# Altium schematic symbol library Joystick.SchLib: 12 symbols
Pins are listed as number, name and electrical type; pins without a type are passive.

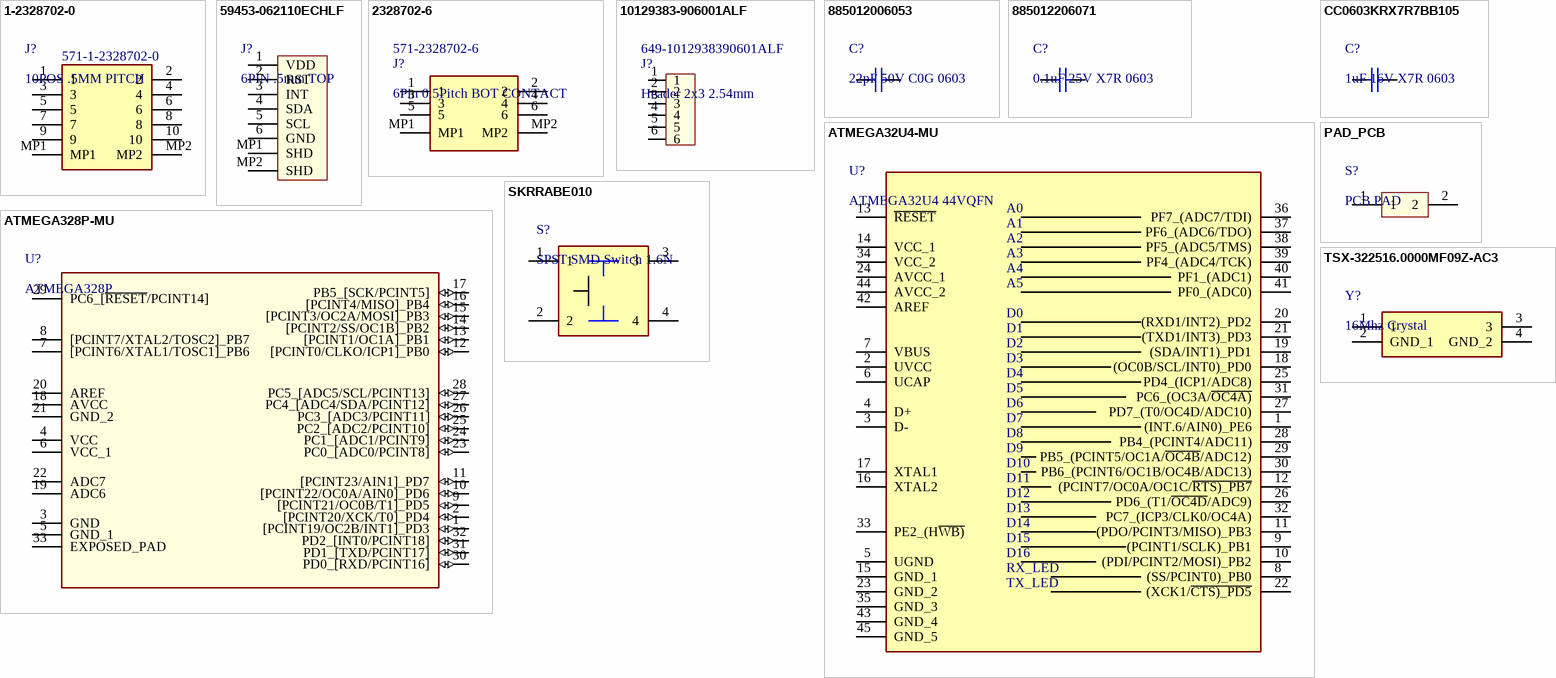
[diagram p0: symbols 1-2328702-0 to TSX-322516.0000MF09Z-AC3]

## 1-2328702-0
designator J?, comment 10POS .5MM PITCH  Supplier Part Number 1: 571-1-2328702-0
Manufacturer: TE Connectivity AMP; Manufacturer Part Number: 1-2328702-0; Supplier 1: Mouser; Stock 1: 21506; Pricing 1: 1=0.23, 10=0.18, 50=0.18, 100=0.142, 1000=0.101, 10000=0.09 (USD)
footprint 123287020
pins: 1, 2, 3, 4, 5, 6, 7, 8, 9, 10, MP1, MP2

## 59453-062110ECHLF
designator J?, comment 6PIN .5mm TOP
FFC & FPC Connectors TRANSFER TO VENDOR; Manufacturer: Amphenol FCI; Manufacturer Part Number: 59453-062110ECHLF; Actuator Material: Glass; Voltage Rating: 50V; Current Rating: 400mA; Number of Positions: 6; Insulation Resistance: 100MR; Pitch: 0.02inch; Supplier 1: Mouser; RoHS: Yes; Stock 1: 10956; Pricing 1: 1 = 0,38000, 10 = 0,26200, 50 = 0,26200, 100 = 0,22600, 1000 = 0,18000, 10000 = 0,12600 (USD); Mount: Surface Mount; Contact Material: Copper Alloy; Contact Plating: Gold; Housing Material: Glass; Min Operating Temperature: -40°C; Max Operating Temperature: 85°C; Packaging: Tape and Reel; Package Quantity: 5000; Termination: Solder; Contact Location: Top; Flammability Rating: UL94 V-0; ComponentLink1URL: http://portal.fciconnect.com/Comergent//fci/drawing/59453-0_2110echlf.pdf?src-supplier=Digi-Key; ComponentLink1Description: http://portal.fciconnect.com/Comergent//fci/drawing/59453-0_2110echlf.pdf?src-supplier=Digi-Key; ComponentLink2URL: http://portal.fciconnect.com/Comergent/fci/documentation/24p%20NAT%20BD%20060508.pdf?src-supplier=Mouser; ComponentLink2Description: http://portal.fciconnect.com/Comergent/fci/documentation/24p%20NAT%20BD%20060508.pdf?src-supplier=Mouser; Supplier Part Number 1: 649-59453062110ECHLF
footprint 59453-062110ECHLF
pins: 1 VDD, 2 RST, 3 INT, 4 SDA, 5 SCL, 6 GND, MP1 SHD, MP2 SHD

## 2328702-6
designator J?, comment 6Pin 0.5Pitch BOT CONTACT  Supplier Part Number 1: 571-2328702-6
0.5MM PITCH DUAL CONTACT BACK FL; Manufacturer 1: TE Connectivity; Manufacturer Part Number 1: 2328702-6; Supplier 1: Mouser; Stock 1: 20863; Pricing 1: 1=0,20000, 10=0,15500, 50=0,15500, 100=0,12300, 500=0,10700, 1000=0,08700, 4000=0,08000, 8000=0,07800, 10000=0,07800, 12000=0,07100 (USD); RoHS: No; ComponentLink1URL: https://www.te.com/commerce/DocumentDelivery/DDEController?Action=srchrtrv&amp;DocNm=2328702&amp;DocType=Customer+Drawing&amp;DocLang=English&src-supplier=Digi-Key; ComponentLink1Description: https://www.te.com/commerce/DocumentDelivery/DDEController?Action=srchrtrv&amp;DocNm=2328702&amp;DocType=Customer+Drawing&amp;DocLang=English&src-supplier=Digi-Key; ComponentLink2URL: https://www.te.com/commerce/DocumentDelivery/DDEController?Action=srchrtrv&DocNm=2328702&DocType=Customer+Drawing&DocLang=English&src-supplier=Digi-Key; ComponentLink2Description: https://www.te.com/commerce/DocumentDelivery/DDEController?Action=srchrtrv&DocNm=2328702&DocType=Customer+Drawing&DocLang=English&src-supplier=Digi-Key
footprint 23287026
pins: 1, 2, 3, 4, 5, 6, MP1, MP2

## 10129383-906001ALF
designator J?, comment Header 2x3 2.54mm  Supplier Part Number 1: 649-1012938390601ALF
Header SMD 2x3 2.54mm; Manufacturer 1: Amphenol FCI; Manufacturer Part Number 1: 10129383-906001ALF; Supplier 1: Mouser; Stock 1: 1444; Pricing 1: 1=0,74000, 10=0,55800, 50=0,55800, 100=0,53500, 500=0,46500, 1000=0,46500, 1480=0,38400, 2960=0,34900, 4440=0,33700, 8880=0,31400, 10000=0,31400, 23680=0,30900 (USD); RoHS: No
footprint 10129383-906001ALF
pins: 1, 2, 3, 4, 5, 6

## 885012006053
designator C?, comment 22pF 50V C0G 0603
CAP CER 22PF 50V C0G/NP0 0603; Manufacturer: Wurth Electronics; Manufacturer Part Number: 885012006053; Tolerance: 5%; Supplier 1: Mouser; RoHS: Yes; Stock 1: 18931; Pricing 1: 1 = 0,10000, 10 = 0,02500, 50 = 0,02500, 100 = 0,02200, 1000 = 0,02000, 10000 = 0,01800 (USD); Mount: Surface Mount; Case/Package: 0603; Case Code (Metric): 1608; Case Code (Imperial): 0603; Min Operating Temperature: -55°C; Max Operating Temperature: 125°C; Packaging: Cut Tape; Capacitance: 22pF; Voltage Rating: 50V; Dielectric: C0G; Voltage Rating (DC): 50V; Length: 0.063inch; Width: 0.031inch; Thickness: 0.034inch; REACH SVHC: Unknown; ComponentLink1URL: http://www.farnell.com/datasheets/1958436.pdf?src-supplier=Farnell; ComponentLink1Description: http://www.farnell.com/datasheets/1958436.pdf?src-supplier=Farnell; ComponentLink2URL: https://katalog.we-online.de/pbs/datasheet/885012006053.pdf?src-supplier=Digi-Key; ComponentLink2Description: https://katalog.we-online.de/pbs/datasheet/885012006053.pdf?src-supplier=Digi-Key; ComponentLink3URL: http://www.farnell.com/datasheets/1958436.pdf?src-supplier=Element14; ComponentLink3Description: http://www.farnell.com/datasheets/1958436.pdf?src-supplier=Element14; Supplier Part Number 1: 710-885012006053
footprint C 0603/1608
pins: 1, 2

## 885012206071
designator C?, comment 0.1uF 25V X7R 0603
CAP CER 0.1UF 25V X7R 0603; Manufacturer: Wurth Electronics; Manufacturer Part Number: 885012206071; Capacitance: 100nF; Tolerance: 10%; Supplier 1: Mouser; RoHS: Yes; Stock 1: 379651; Pricing 1: 1 = 0,10000, 10 = 0,04600, 50 = 0,04600, 100 = 0,04100, 1000 = 0,03600, 10000 = 0,02800 (USD); Mount: Surface Mount; Case/Package: 0603; Case Code (Metric): 1608; Case Code (Imperial): 0603; Min Operating Temperature: -55°C; Max Operating Temperature: 125°C; Packaging: Cut Tape; Voltage Rating: 25V; Dielectric: X7R; Voltage Rating (DC): 25V; Length: 0.063inch; Width: 0.031inch; Thickness: 0.037inch; REACH SVHC: Unknown; ComponentLink1URL: http://www.farnell.com/datasheets/1958474.pdf?src-supplier=Farnell; ComponentLink1Description: http://www.farnell.com/datasheets/1958474.pdf?src-supplier=Farnell; ComponentLink2URL: http://www.farnell.com/datasheets/1958474.pdf?src-supplier=Element14; ComponentLink2Description: http://www.farnell.com/datasheets/1958474.pdf?src-supplier=Element14; ComponentLink3URL: https://katalog.we-online.de/pbs/datasheet/885012206071.pdf?src-supplier=Digi-Key; ComponentLink3Description: https://katalog.we-online.de/pbs/datasheet/885012206071.pdf?src-supplier=Digi-Key; ComponentLink4URL: http://www.farnell.com/datasheets/1958474.pdf?src-supplier=Newark; ComponentLink4Description: http://www.farnell.com/datasheets/1958474.pdf?src-supplier=Newark; Supplier Part Number 1: 710-885012206071
footprint C 0603/1608
pins: 1, 2

## ATMEGA32U4-MU
designator U?, comment ATMEGA32U4 44VQFN
IC MCU 8BIT 32KB FLASH 44VQFN; Manufacturer: Microchip / Atmel; Manufacturer Part Number: ATMEGA32U4-MU; Core Architecture: AVR; Interface: SPI; Data Bus Width: 8b; RAM Size: 2.5KB; Number of I/Os: 26; Max Supply Voltage: 5.5V; Min Supply Voltage: 2.7V; Oscillator Type: External; Max Frequency: 16MHz; Peripherals: Brown-out Detect/Reset; Number of Timers/Counters: 5; Number of USB Channels: 1; Number of ADC Channels: 12; Number of SPI Channels: 2; Number of PWM Channels: 8; Watchdog Timer: Yes; Supplier 1: Mouser; RoHS: Yes; Stock 1: 6703; Pricing 1: 1 = 4,09000, 10 = 4,03000, 50 = 3,75000, 100 = 3,40000, 1000 = 3,40000, 10000 = 3,40000 (USD); Mount: Surface Mount; Case/Package: QFN EP; Number of Pins: 44; Contact Plating: Tin; Min Operating Temperature: -40°C; Max Operating Temperature: 85°C; Package Quantity: 2080; Packaging: Tray; Memory Type: FLASH; Memory Size: 32KB; Frequency: 16MHz; Number of Programmable I/O: 26; Number of I2C Channels: 1; Number of UART Channels: 1; Length: 7.1mm; Height: 0.95mm; Width: 7.1mm; Radiation Hardening: No; REACH SVHC: No SVHC; Lead Free: Lead Free; ComponentLink1URL: https://datasheet.ciiva.com/31424/1817557-31424491.pdf?src-supplier=Farnell; ComponentLink1Description: https://datasheet.ciiva.com/31424/1817557-31424491.pdf?src-supplier=Farnell; ComponentLink2URL: https://datasheet.ciiva.com/15122/getdatasheetpartid-113178-15122331.pdf?src-supplier=Verical; ComponentLink2Description: https://datasheet.ciiva.com/15122/getdatasheetpartid-113178-15122331.pdf?src-supplier=Verical; ComponentLink3URL: https://datasheet.ciiva.com/26818/atmega32u4-mu-26818580.pdf?src-supplier=IIIC; ComponentLink3Description: https://datasheet.ciiva.com/26818/atmega32u4-mu-26818580.pdf?src-supplier=IIIC; ComponentLink4URL: https://datasheet.ciiva.com/46450/1817557-46450312.pdf?src-supplier=Element14; ComponentLink4Description: https://datasheet.ciiva.com/46450/1817557-46450312.pdf?src-supplier=Element14; Supplier Part Number 1: 556-ATMEGA32U4-MU
footprint QFN50P700X700X100-45N-D
pins: 1 (INT.6/AIN0)_PE6, 2 UVCC, 3 D-, 4 D+, 5 UGND, 6 UCAP, 7 VBUS, 8 (SS/PCINT0)_PB0, 9 (PCINT1/SCLK)_PB1, 10 (PDI/PCINT2/MOSI)_PB2, 11 (PDO/PCINT3/MISO)_PB3, 12 (PCINT7/OC0A/OC1C/~{RTS)_PB7}, 13 ~{RESET}, 14 VCC_1, 15 GND_1, 16 XTAL2, 17 XTAL1, 18 (OC0B/SCL/INT0)_PD0, 19 (SDA/INT1)_PD1, 20 (RXD1/INT2)_PD2, 21 (TXD1/INT3)_PD3, 22 (XCK1/~{CTS)_PD5}, 23 GND_2, 24 AVCC_1, 25 PD4_(ICP1/ADC8), 26 PD6_(T1/~{OC4D}/ADC9), 27 PD7_(T0/OC4D/ADC10), 28 PB4_(PCINT4/ADC11), 29 PB5_(PCINT5/OC1A/~{OC4B}/ADC12), 30 PB6_(PCINT6/OC1B/OC4B/ADC13), 31 PC6_(OC3A/~{OC4A)}, 32 PC7_(ICP3/CLK0/OC4A), 33 PE2_(H~{WB)}, 34 VCC_2, 35 GND_3, 36 PF7_(ADC7/TDI), 37 PF6_(ADC6/TDO), 38 PF5_(ADC5/TMS), 39 PF4_(ADC4/TCK), 40 PF1_(ADC1), 41 PF0_(ADC0), 42 AREF, 43 GND_4, 44 AVCC_2, 45 GND_5
text: A0; A1; A2; A3; A4; A5; D0; D1; D2; D3; D4; D5; D6; D7; D8; D9; D10; D11; D12; D13; D14; D15; D16; RX_LED; TX_LED

## ATMEGA328P-MU
designator U?, comment ATMEGA328P
IC MCU 8BIT 32KB FLASH 32VQFN; Manufacturer 1: Microchip; Manufacturer Part Number 1: ATMEGA328P-MU; Supplier 1: Mouser; Stock 1: 2724; Pricing 1: 1=2,07000, 10=2,04000, 25=1,89000, 50=1,89000, 100=1,72000, 1000=1,72000, 10000=1,54000 (USD); RoHS: No; Case/Package: QFN; ComponentLink1URL: http://www.farnell.com/datasheets/2047852.pdf?src-supplier=Farnell; ComponentLink1Description: http://www.farnell.com/datasheets/2047852.pdf?src-supplier=Farnell; ComponentLink2URL: http://www.microchip.com/mymicrochip/filehandler.aspx?ddocname=en589968&src-supplier=Digi-Key; ComponentLink2Description: http://www.microchip.com/mymicrochip/filehandler.aspx?ddocname=en589968&src-supplier=Digi-Key; Supplier Part Number 1: 556-ATMEGA328P-MU
footprint QFN50P500X500X100-33N-D
pins: 1 [PCINT19/OC2B/INT1]_PD3 (io), 2 [PCINT20/XCK/T0]_PD4 (io), 3 GND (power), 4 VCC (power), 5 GND_1 (power), 6 VCC_1 (power), 7 [PCINT6/XTAL1/TOSC1]_PB6, 8 [PCINT7/XTAL2/TOSC2]_PB7, 9 [PCINT21/OC0B/T1]_PD5 (io), 10 [PCINT22/OC0A/AIN0]_PD6 (io), 11 [PCINT23/AIN1]_PD7 (io), 12 [PCINT0/CLKO/ICP1]_PB0 (io), 13 [PCINT1/OC1A]_PB1 (io), 14 [PCINT2/SS/OC1B]_PB2 (io), 15 [PCINT3/OC2A/MOSI]_PB3 (io), 16 [PCINT4/MISO]_PB4 (io), 17 PB5_[SCK/PCINT5] (io), 18 AVCC (power), 19 ADC6, 20 AREF, 21 GND_2 (power), 22 ADC7, 23 PC0_[ADC0/PCINT8] (io), 24 PC1_[ADC1/PCINT9] (io), 25 PC2_[ADC2/PCINT10] (io), 26 PC3_[ADC3/PCINT11] (io), 27 PC4_[ADC4/SDA/PCINT12] (io), 28 PC5_[ADC5/SCL/PCINT13] (io), 29 PC6_[~{RESET}/PCINT14], 30 PD0_[RXD/PCINT16] (io), 31 PD1_[TXD/PCINT17] (io), 32 PD2_[INT0/PCINT18] (io), 33 EXPOSED_PAD

## CC0603KRX7R7BB105
designator C?, comment 1uF 16V X7R 0603
CAP CER 1UF 16V X7R 0603; Manufacturer: Yageo; Manufacturer Part Number: CC0603KRX7R7BB105; Tolerance: 10%; Dissipation Factor: 5%; Supplier 1: Mouser; RoHS: Yes; Stock 1: 316961; Pricing 1: 1 = 0,10000, 10 = 0,05100, 50 = 0,05100, 100 = 0,02300, 1000 = 0,01800, 10000 = 0,01800 (USD); Mount: Surface Mount; Case/Package: 0603; Number of Pins: 2; Case Code (Metric): 1608; Case Code (Imperial): 0603; Min Operating Temperature: -55°C; Max Operating Temperature: 125°C; Capacitance: 1uF; Voltage Rating: 16V; Package Quantity: 1; Packaging: Tape and Reel; Voltage Rating (DC): 16V; Dielectric: X7R; Termination: SMD/SMT; Composition: Ceramic; Voltage: 16V; Length: 1.6mm; Height: 0.8mm; Width: 0.031inch; Thickness: 0.035inch; Depth: 0.8mm; Radiation Hardening: No; REACH SVHC: Unknown; Lead Free: Lead Free; Halogen Free: Halogen Free; ComponentLink1URL: https://datasheet.ciiva.com/176/mlccorderingcode-176788.pdf?src-supplier=Digi-Key; ComponentLink1Description: https://datasheet.ciiva.com/176/mlccorderingcode-176788.pdf?src-supplier=Digi-Key; ComponentLink2URL: https://datasheet.ciiva.com/176/mlccorderingcode-176789.pdf?src-supplier=Digi-Key; ComponentLink2Description: https://datasheet.ciiva.com/176/mlccorderingcode-176789.pdf?src-supplier=Digi-Key; ComponentLink3URL: https://datasheet.ciiva.com/176/mlccorderingcode-176790.pdf?src-supplier=Digi-Key; ComponentLink3Description: https://datasheet.ciiva.com/176/mlccorderingcode-176790.pdf?src-supplier=Digi-Key; ComponentLink4URL: https://datasheet.ciiva.com/5425/upy-gphc-x7r-6-3v-to-50v-8-12304-5425495.pdf?src-supplier=Mouser; ComponentLink4Description: https://datasheet.ciiva.com/5425/upy-gphc-x7r-6-3v-to-50v-8-12304-5425495.pdf?src-supplier=Mouser; ComponentLink5URL: https://datasheet.ciiva.com/16625/upy-gphc-x7r-6-3v-to-50v-8-16625527.pdf?src-supplier=Avnet+Europe; ComponentLink5Description: https://datasheet.ciiva.com/16625/upy-gphc-x7r-6-3v-to-50v-8-16625527.pdf?src-supplier=Avnet+Europe; ComponentLink6URL: https://datasheet.ciiva.com/8033/1734573-8033800.pdf?src-supplier=Element14; ComponentLink6Description: https://datasheet.ciiva.com/8033/1734573-8033800.pdf?src-supplier=Element14; ComponentLink7URL: https://datasheet.ciiva.com/8033/1734573-8033801.pdf?src-supplier=Element14; ComponentLink7Description: https://datasheet.ciiva.com/8033/1734573-8033801.pdf?src-supplier=Element14; ComponentLink8URL: https://datasheet.ciiva.com/28450/1489800-28450557.pdf?src-supplier=Element14; ComponentLink8Description: https://datasheet.ciiva.com/28450/1489800-28450557.pdf?src-supplier=Element14; ComponentLink9URL: https://datasheet.ciiva.com/7978/1489800-7978143.pdf?src-supplier=Element14; ComponentLink9Description: https://datasheet.ciiva.com/7978/1489800-7978143.pdf?src-supplier=Element14; Supplier Part Number 1: 603-CC603KRX7R7BB105
footprint C 0603/1608
pins: 1, 2

## PAD_PCB
designator S?, comment PCB PAD
footprint PAD_OK
pins: 1, 2

## SKRRABE010
designator S?, comment SPST SMD Switch 1.6N
Switch Tactile N.O. SPST Flush Round Button 0.05A 12VDC 1.6N SMD T/R; Manufacturer: Alps Electric; Manufacturer Part Number: SKRRABE010; Max Voltage Rating (DC): 12V; Current Rating: 50mA; Contact Resistance: 500mR; Electrical Life: 5000000Cycles; Actuator Length: 0mm; Supplier 1: Mouser; RoHS: Yes; Stock 1: 7065; Pricing 1: 1 = 0,43000, 10 = 0,43000, 50 = 0,36000, 100 = 0,31900, 1000 = 0,23400, 10000 = 0,22100 (USD); Mount: Surface Mount; Case/Package: SMD/SMT; Contact Plating: Silver; Min Operating Temperature: -20°C; Max Operating Temperature: 70°C; Operating Force: 1.6N; Throw Configuration: SPST; Package Quantity: 7000; Packaging: Tape and Reel; Voltage Rating (DC): 12V; Max Current Rating: 50mA; Orientation: Straight; Length: 7.5mm; Depth: 7mm; Radiation Hardening: No; Lead Free: Lead Free; ComponentLink1URL: http://www.alps.com/prod/info/E/HTML/Tact/SurfaceMount/SKRR/SKRR_list.html?src-supplier=Avnet; ComponentLink1Description: http://www.alps.com/prod/info/E/HTML/Tact/SurfaceMount/SKRR/SKRR_list.html?src-supplier=Avnet; ComponentLink2URL: https://www.verical.com/server-webapp/html/getDatasheet?partID=652315&src-supplier=Verical; ComponentLink2Description: https://www.verical.com/server-webapp/html/getDatasheet?partID=652315&src-supplier=Verical; ComponentLink3URL: http://www.alps.com/products/WebObjects/catalog.woa/E/HTML/Tact/SurfaceMount/SKRR/SKRR_list.html?src-supplier=Avnet; ComponentLink3Description: http://www.alps.com/products/WebObjects/catalog.woa/E/HTML/Tact/SurfaceMount/SKRR/SKRR_list.html?src-supplier=Avnet; ComponentLink4URL: http://www.alps.com/prod/info/E/HTML/Tact/SurfaceMount/SKRR/SKRR_list.html?src-supplier=Avnet+Asia; ComponentLink4Description: http://www.alps.com/prod/info/E/HTML/Tact/SurfaceMount/SKRR/SKRR_list.html?src-supplier=Avnet+Asia; ComponentLink5URL: http://www.alps.com/products/WebObjects/catalog.woa/E/HTML/Tact/SurfaceMount/SKRR/SKRRABE010.html?src-supplier=Mouser; ComponentLink5Description: http://www.alps.com/products/WebObjects/catalog.woa/E/HTML/Tact/SurfaceMount/SKRR/SKRRABE010.html?src-supplier=Mouser; ComponentLink6URL: http://www.onlinecomponents.com/productFiles/mf-ALE/155skrr.pdf?src-supplier=Onlinecomponents.com; ComponentLink6Description: http://www.onlinecomponents.com/productFiles/mf-ALE/155skrr.pdf?src-supplier=Onlinecomponents.com; Supplier Part Number 1: 688-SKRRAB
footprint SKRR
pins: 1, 2, 3, 4

## TSX-322516.0000MF09Z-AC3
designator Y?, comment 16Mhz Crystal
CRYSTAL 16.0000MHZ 9PF SMD; Manufacturer: Epson; Manufacturer Part Number: TSX-322516.0000MF09Z-AC3; Frequency Tolerance: 10ppm; ESR (Equivalent Series Resistance): 60R; Frequency Stability: 9ppm; Supplier 1: Mouser; RoHS: Yes; Stock 1: 116357; Pricing 1: 1 = 0,34000, 10 = 0,27500, 50 = 0,24800, 100 = 0,22000, 1000 = 0,17600, 10000 = 0,15400 (USD); Mount: Surface Mount; Case/Package: SMD/SMT; Weight: 0.000564oz; Min Operating Temperature: -20°C; Max Operating Temperature: 75°C; Frequency: 16MHz; Load Capacitance: 9pF; Packaging: Tape and Reel; Package Quantity: 1; Tolerance: 10ppm; Termination: SMD/SMT; Length: 0.126inch; Height: 0.024inch; Width: 0.098inch; Lead Free: Lead Free; ComponentLink1URL: https://www5.epsondevice.com/en/information/support/pdf/june_2018_psc_masterbook.pdf?src-supplier=Digi-Key; ComponentLink1Description: https://www5.epsondevice.com/en/information/support/pdf/june_2018_psc_masterbook.pdf?src-supplier=Digi-Key; ComponentLink2URL: http://www5.epsondevice.com/en/products/crystal_unit/tsx3225.html#?src-supplier=Mouser; ComponentLink2Description: http://www5.epsondevice.com/en/products/crystal_unit/tsx3225.html#?src-supplier=Mouser; Supplier Part Number 1: 732-TX325-16F09Z-AC3
footprint TSX-3225_2
pins: 1, 2 GND_1, 3, 4 GND_2